# Altium footprint library SOIC127P1030X265-20N-1.PcbLib: 1 footprints
Each footprint in its own frame and in the unit in brackets; x right, y up, seen from the top. Pads: shape width x height; smd on the part's side, far side on the other; paste and mask are expansions set on the pad; w line width, h text height; cw(c..) or ccw(c..) is an arc to the next point about the centre after c.
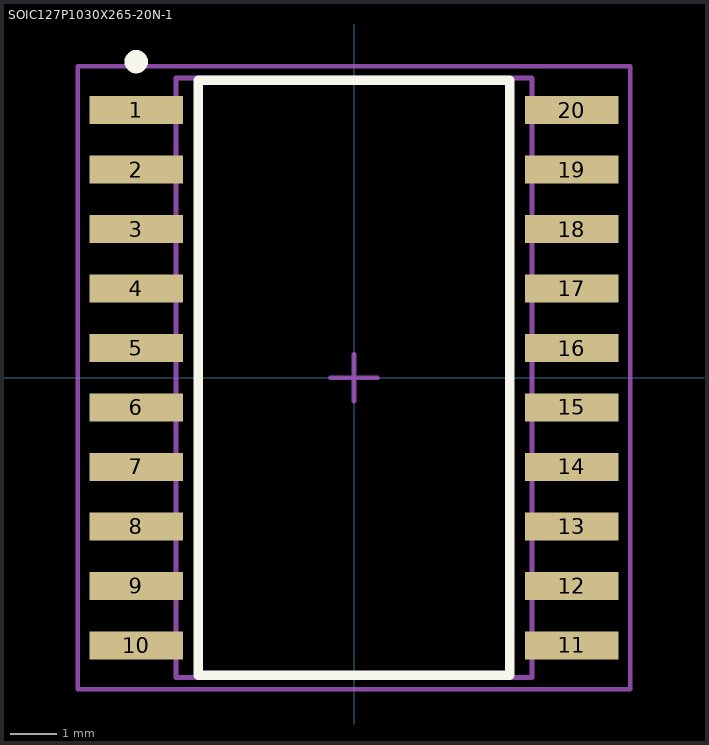
[diagram p0: the footprint, top view; thin cyan lines are the x and y axes]

## SOIC127P1030X265-20N-1 [mm] "SOIC,1.27mm pitch;20 pin,7.50mm W X 12.70mm L X 2.65mm H body"
height 2.65
pads (20):
  rect 2x0.6 smd paste+0 mask+0: 1(-4.65,5.715) 2(-4.65,4.445) 3(-4.65,3.175) 4(-4.65,1.905) 5(-4.65,0.635) 6(-4.65,-0.635) 7(-4.65,-1.905) 8(-4.65,-3.175) 9(-4.65,-4.445) 10(-4.65,-5.715) 11(4.65,-5.715) 12(4.65,-4.445) 13(4.65,-3.175) 14(4.65,-1.905) 15(4.65,-0.635) 16(4.65,0.635) 17(4.65,1.905) 18(4.65,3.175) 19(4.65,4.445) 20(4.65,5.715)
Top Overlay:
  circle w0.25: c-4.65,6.75 r0.125
  lines w0.2: -3.33,-6.35 -3.33,6.35 3.33,6.35 3.33,-6.35 -3.33,-6.35
Mechanical 3:
  text ".DESIGNATOR" at 0,0 h1.2
Mechanical 13:
  lines w0.1: -3.8,-6.4 -3.8,6.4 3.8,6.4 3.8,-6.4 -3.8,-6.4
Mechanical 15:
  lines w0.1: -0.5,0 0.5,0 ; 0,-0.5 0,0.5 ; -5.9,-6.65 -5.9,6.65 5.9,6.65 5.9,-6.65 -5.9,-6.65
3D body "DSO-20-1.stp": height 2.66, standoff 0, extent -5.15,-6.4 5.15,6.4